# EAGLE library part MICRO_SPS_AVR (library e-sps)
Micro SPS mit AVR Prozessor <www.microsps.com>
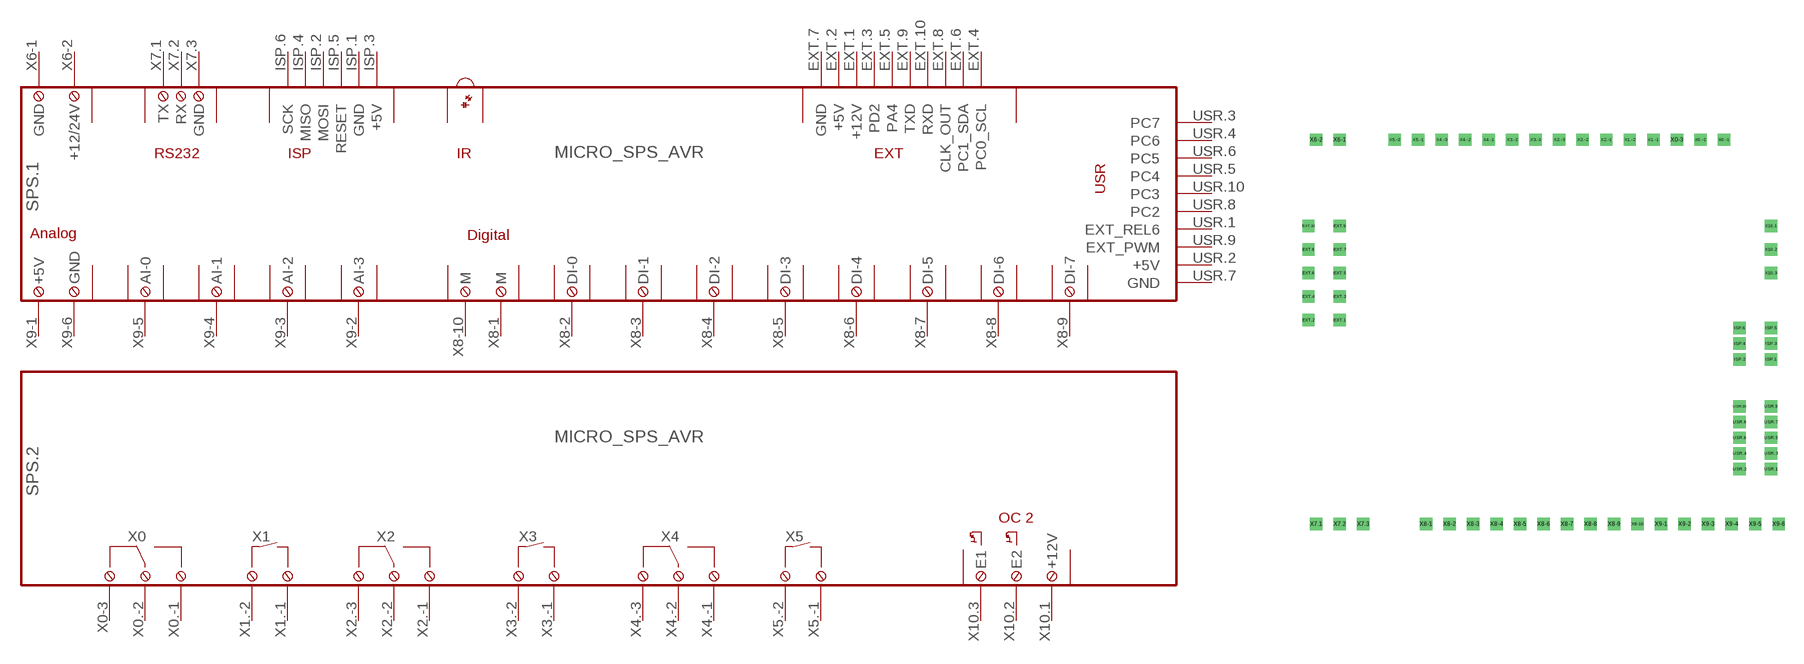
[diagram p0: symbol with the pads of MICRO_SPS_AVR; footprint MICRO_SPS_AVR]

Designator prefix SPS; gates X0=SPS_AVR_AUSGANG_X0 X1=SPS_AVR_AUSGANG_X1 X2=SPS_AVR_AUSGANG_X2 X4=SPS_AVR_AUSGANG_X4 X5=SPS_AVR_AUSGANG_X5 AN0=SPS_EINGANG_ANALOG0 AN1=SPS_EINGANG_ANALOG1 AN2=SPS_EINGANG_ANALOG2 AN3=SPS_EINGANG_ANALOG3 IN0=SPS_EINGANG_DIGITAL0 IN1=SPS_EINGANG_DIGITAL1 IN2=SPS_EINGANG_DIGITAL2 IN3=SPS_EINGANG_DIGITAL3 IN4=SPS_EINGANG_DIGITAL4 IN5=SPS_EINGANG_DIGITAL5 IN6=SPS_EINGANG_DIGITAL6 IN7=SPS_EINGANG_DIGITAL7 ANALOG=SPS_AVR_VERSORGUNG_EINGANG_ANALOG DIGITAL=SPS_AVR_VERSORGUNG_EINGANG_DIGITAL OC2=SPS_AVR_OC_2 X7=SPS_AVR_RS232 USR=SPS_AVR_USR EXT=SPS_AVR_EXT X6=SPS_AVR_VERSORGUNG .1=SPS_RAHMEN_LU ISP=SPS_AVR_ISP .1OL=SPS_RAHMEN_LO .1OR=SPS_RAHMEN_RO .1UR=SPS_RAHMEN_RU G$5=SPS_RAHMEN_LO .2=SPS_RAHMEN_LU G$7=SPS_RAHMEN_RO G$8=SPS_RAHMEN_RU X3=SPS_AVR_AUSGANG_X3 IR=SPS_AVR_IR

## MICRO_SPS_AVR  [MICRO_SPS_AVR]
EXT.1  EXT:+12V  pas
EXT.2  EXT:+5V  pas
EXT.3  EXT:PD2  pas
EXT.4  EXT:PC0_SCL  pas
EXT.5  EXT:PA4  pas
EXT.6  EXT:PC1_SDA  pas
EXT.7  EXT:GND  pas
EXT.8  EXT:CLK_OUT  pas
EXT.9  EXT:TXD  pas
EXT.10  EXT:RXD  pas
ISP.1  ISP:GND  pas
ISP.2  ISP:MOSI  pas
ISP.3  ISP:+5V  pas
ISP.4  ISP:MISO  pas
ISP.5  ISP:RESET  pas
ISP.6  ISP:SCK  pas
USR.1  USR:EXT_REL6  pas
USR.2  USR:+5V  pas
USR.3  USR:PC7  pas
USR.4  USR:PC6  pas
USR.5  USR:PC4  pas
USR.6  USR:PC5  pas
USR.7  USR:GND  pas
USR.8  USR:PC2  pas
USR.9  USR:EXT_PWM  pas
USR.10  USR:PC3  pas
X0-3  X0:-3  pas
X0.-1  X0:-1  pas
X0.-2  X0:-2  pas
X1.-1  X1:-1  pas
X1.-2  X1:-2  pas
X2.-1  X2:-1  pas
X2.-2  X2:-2  pas
X2.-3  X2:-3  pas
X3.-1  X3:-1  pas
X3.-2  X3:-2  pas
X4.-1  X4:-1  pas
X4.-2  X4:-2  pas
X4.-3  X4:-3  pas
X5.-1  X5:-1  pas
X5.-2  X5:-2  pas
X6-1  X6:GND  pas
X6-2  X6:+12/24V  pas
X7.1  X7:TX  pas
X7.2  X7:RX  pas
X7.3  X7:GND  pas
X8-1  DIGITAL:M  pas
X8-2  IN0:DI-0  pas
X8-3  IN1:DI-1  pas
X8-4  IN2:DI-2  pas
X8-5  IN3:DI-3  pas
X8-6  IN4:DI-4  pas
X8-7  IN5:DI-5  pas
X8-8  IN6:DI-6  pas
X8-9  IN7:DI-7  pas
X8-10  DIGITAL:M  pas
X9-1  ANALOG:+5V  pas
X9-2  AN3:AI-3  pas
X9-3  AN2:AI-2  pas
X9-4  AN1:AI-1  pas
X9-5  AN0:AI-0  pas
X9-6  ANALOG:GND  pas
X10.1  OC2:+12V  pas
X10.2  OC2:E2  pas
X10.3  OC2:E1  pas

## Footprint MICRO_SPS_AVR (pad centres in mm)
Dummy
drill 0.5 pad 1 square: EXT.1 -15.875,0.635; EXT.2 -18.415,0.635; EXT.3 -15.875,2.54; EXT.4 -18.415,2.54; EXT.5 -15.875,4.445; EXT.6 -18.415,4.445; EXT.7 -15.875,6.35; EXT.8 -18.415,6.35; EXT.9 -15.875,8.255; EXT.10 -18.415,8.255; ISP.1 19.05,-2.54; ISP.2 16.51,-2.54; ISP.3 19.05,-1.27; ISP.4 16.51,-1.27; ISP.5 19.05,0; ISP.6 16.51,0; USR.1 19.05,-11.43; USR.2 16.51,-11.43; USR.3 19.05,-10.16; USR.4 16.51,-10.16; USR.5 19.05,-8.89; USR.6 16.51,-8.89; USR.7 19.05,-7.62; USR.8 16.51,-7.62; USR.9 19.05,-6.35; USR.10 16.51,-6.35; X0-3 11.43,15.24; X0.-1 15.24,15.24; X0.-2 13.335,15.24; X1.-1 9.525,15.24; X1.-2 7.62,15.24; X2.-1 5.715,15.24; X2.-2 3.81,15.24; X2.-3 1.905,15.24; X3.-1 0,15.24; X3.-2 -1.905,15.24; X4.-1 -3.81,15.24; X4.-2 -5.715,15.24; X4.-3 -7.62,15.24; X5.-1 -9.525,15.24; X5.-2 -11.43,15.24; X6-1 -15.875,15.24; X6-2 -17.78,15.24; X7.1 -17.78,-15.875; X7.2 -15.875,-15.875; X7.3 -13.97,-15.875; X8-1 -8.89,-15.875; X8-2 -6.985,-15.875; X8-3 -5.08,-15.875; X8-4 -3.175,-15.875; X8-5 -1.27,-15.875; X8-6 0.635,-15.875; X8-7 2.54,-15.875; X8-8 4.445,-15.875; X8-9 6.35,-15.875; X8-10 8.255,-15.875; X9-1 10.16,-15.875; X9-2 12.065,-15.875; X9-3 13.97,-15.875; X9-4 15.875,-15.875; X9-5 17.78,-15.875; X9-6 19.685,-15.875; X10.1 19.05,8.255; X10.2 19.05,6.35; X10.3 19.05,4.445